# Altium schematic symbol library Current Sensors.SchLib: 1 symbol
Pins are listed as number, name and electrical type; pins without a type are passive.

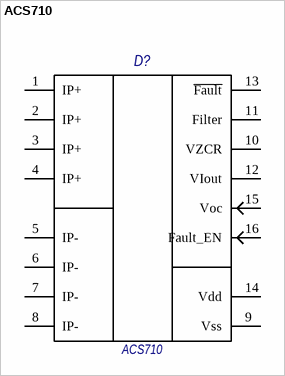
[diagram p0: symbol ACS710]

## ACS710
designator D?  Type: ACS710  (hidden comment: *)
footprint SO-16W
pins: 1 IP+, 2 IP+, 3 IP+, 4 IP+, 5 IP-, 6 IP-, 7 IP-, 8 IP-, 9 Vss, 10 VZCR, 11 Filter, 12 VIout, 13 ~{Fault}, 14 Vdd, 15 Voc, 16 Fault_EN